# Altium schematic symbol library DC MOTOR.SchLib: 1 symbol
Pins are listed as number, name and electrical type; pins without a type are passive.

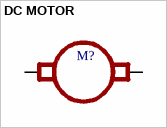
[diagram p0: symbol DC MOTOR]

## DC MOTOR
designator M?
pins: 1, 2